# Altium footprint library FILTERS.PcbLib: 1 footprints
Each footprint in its own frame and in the unit in brackets; x right, y up, seen from the top. Pads: shape width x height; smd on the part's side, far side on the other; paste and mask are expansions set on the pad; w line width, h text height; cw(c..) or ccw(c..) is an arc to the next point about the centre after c.
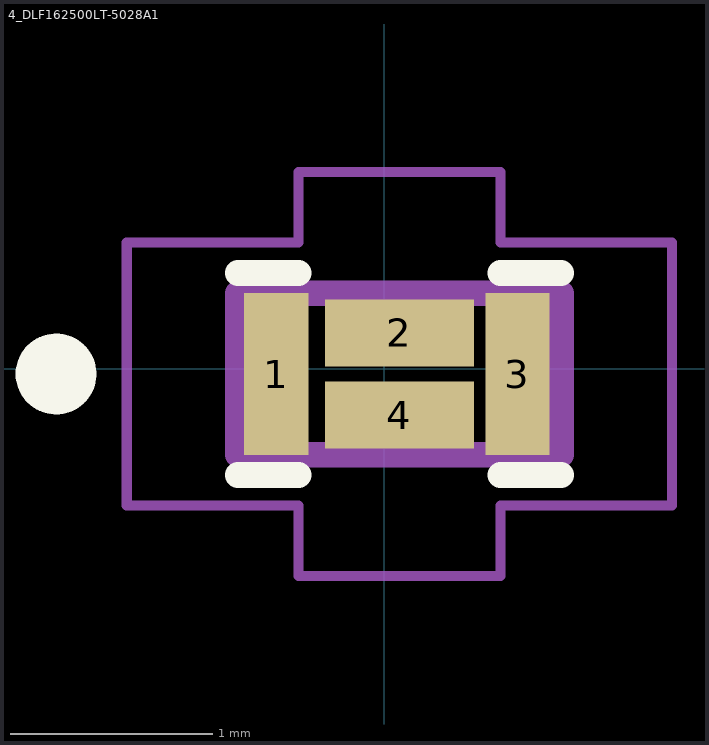
[diagram p0: the footprint, top view; thin cyan lines are the x and y axes]

## 4_DLF162500LT-5028A1 [mil] "1.6mm x 0.8mm x 0.35mm,f= 2.4 GHz,Bw = 100 MHz, 50 ohm"
height 15.75
pads (4):
  rect 12.5x31.5 smd: 1(-21,-1) 3(26,-1)
  rect 29x13 smd: 2(3,7) 4(3,-9)
Top Overlay:
  circle w7.87: c-63.93,-1 r3.94
  lines w5: -28.5,-20.68 -16.68,-20.68 ; -28.5,18.68 -16.68,18.68 ; 22.68,-20.68 34.5,-20.68 ; 22.68,18.68 34.5,18.68
Top 3D Body:
  lines w5: -28.5,-16.75 -28.5,14.75 34.5,14.75 34.5,-16.75 -28.5,-16.75
Top Courtyard:
  lines w1.97: -50.15,-26.59 -50.15,24.59 -16.68,24.59 -16.68,38.37 22.68,38.37 22.68,24.59 56.15,24.59 56.15,-26.59 22.68,-26.59 22.68,-40.37 -16.68,-40.37 -16.68,-26.59 -50.15,-26.59
3D body "DLF162500LT-5028A1.stp": height 10.12, standoff 0, extent -30,-17.5 35.04,15.5